# EAGLE library part 662020231822 (library Wire-to-Board (rev18a))
WR-MPC3 3.00mm Male Dual Row SMT Vertical Header with SMT Fitting Nail, 20 Pins=>Code : Con_WTB_MPC3_2_PCB_SMT_662020231822 <http://katalog.we-online.de/media/thumbs2/eican/thb_Con_WTB_MPC3_2_PCB_SMT_6620xx231822_pf2.jpg> Details see: http://katalog.we-online.de/en/em/MPC3_3_00_SMT_MALE_DUAL_ROW_VERTICAL_HEADER_W_SMT_SOLDER_TAB_6623XX231822 Created 2014-06-06, Karrer Zheng 2014 (C) Würth Elektronik
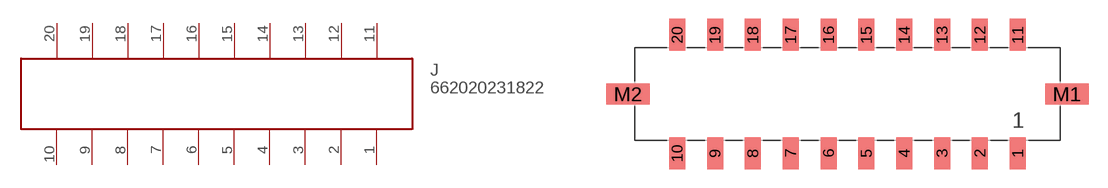
[diagram p392: symbol with the pads of 662020231822; footprint 662020231822]

Designator prefix J

## 662020231822  [662020231822]
1  1
2  2
3  3
4  4
5  5
6  6
7  7
8  8
9  9
10  10
11  11
12  12
13  13
14  14
15  15
16  16
17  17
18  18
19  19
20  20

## Footprint 662020231822 (pad centres in mm)
WR-MPC3 3.00mm Male Dual Row SMT Vertical Header with SMT Fitting Nail, 20 Pins
smd 1.27 x 2.54: 1 13.5,-4.7; 2 10.5,-4.7; 3 7.5,-4.7; 4 4.5,-4.7; 5 1.5,-4.7; 6 -1.5,-4.7; 7 -4.5,-4.7; 8 -7.5,-4.7; 9 -10.5,-4.7; 10 -13.5,-4.7; 11 13.5,4.7; 12 10.5,4.7; 13 7.5,4.7; 14 4.5,4.7; 15 1.5,4.7; 16 -1.5,4.7; 17 -4.5,4.7; 18 -7.5,4.7; 19 -10.5,4.7; 20 -13.5,4.7
smd 3.43 x 1.65: M1 17.395,0; M2 -17.395,0